# Altium footprint library PcbLib1.PcbLib: 8 footprints
Each footprint in its own frame and in the unit in brackets; x right, y up, seen from the top. Pads: shape width x height; smd on the part's side, far side on the other; paste and mask are expansions set on the pad; w line width, h text height; cw(c..) or ccw(c..) is an arc to the next point about the centre after c.
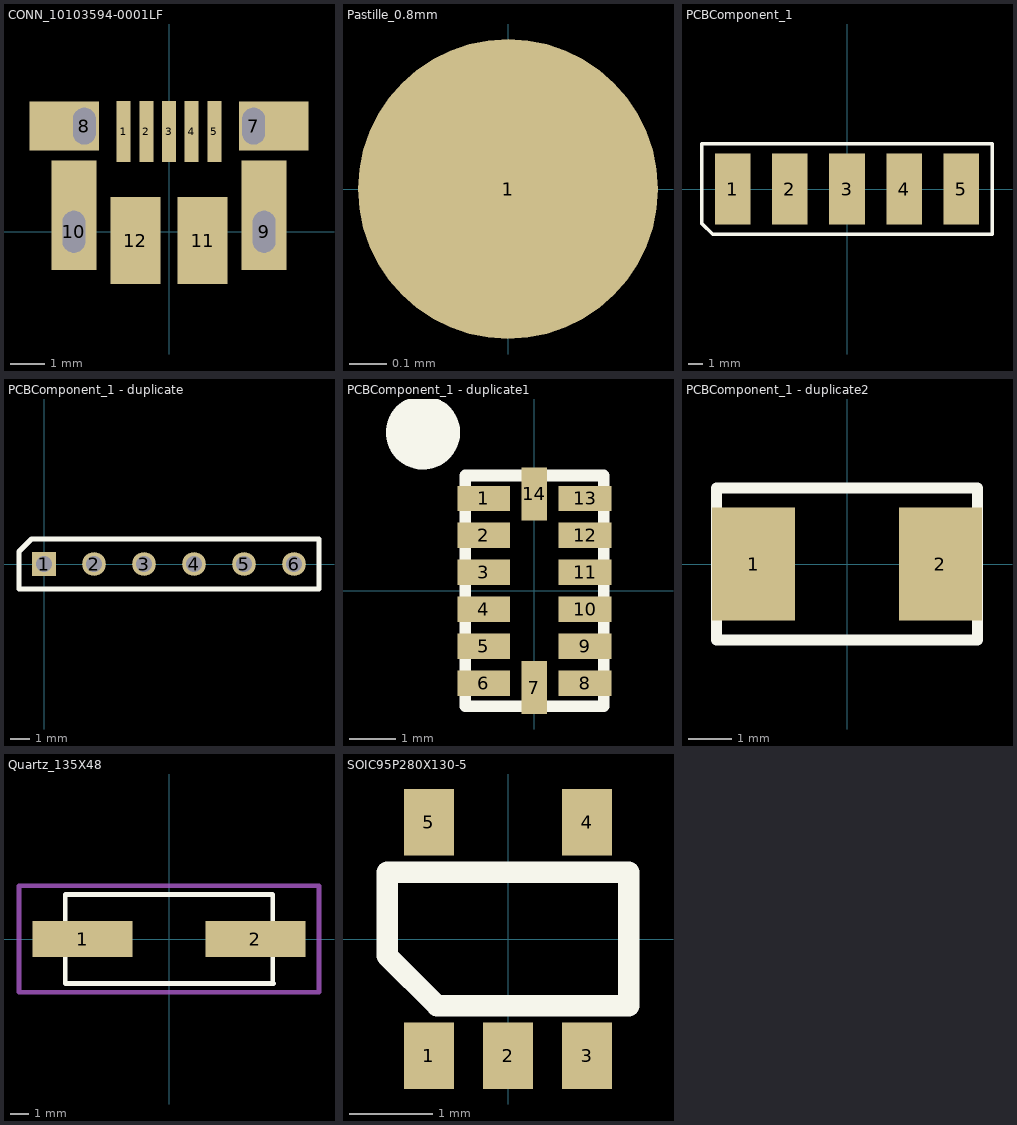
[diagram p0: the footprints below, top view; thin cyan lines are the x and y axes]

## CONN_10103594-0001LF [mm]
pads (11):
  rect 0.4x1.75 smd: 1(-1.3,2.875) 2(-0.65,2.875) 3(0,2.875) 4(0.65,2.875) 5(1.3,2.875)
  rect 2x1.4 hole 0.65 slot 1.05 at 90 deg copper offset 0.575,0: 7(2.425,3.03)
  rect 2x1.4 hole 0.65 slot 1.05 at 90 deg copper offset -0.575,0: 8(-2.425,3.03)
  rect 1.3x3.15 hole 0.65 slot 1.2 at 90 deg copper offset 0,0.475: 9(2.725,0) 10(-2.725,0)
  rect 1.425x2.5 smd: 11(0.962,-0.25) 12(-0.962,-0.25)
Mechanical 1:
  text ".Designator" at 0,0 h0.5

## Pastille_0.8mm [mm]
pads (1):
  round 0.8 smd: 1(0,0)
Mechanical 1:
  text ".Designator" at 0,0 h0.5

## PCBComponent_1 [mm]
pads (5):
  rect 2.5x5 smd: 1(-8,0) 2(-4,0) 3(0,0) 4(4,0) 5(8,0)
Top Overlay:
  lines w0.254: -10.16,-2.413 -10.16,3.175 10.16,3.175 10.16,-3.175 -9.398,-3.175 -10.16,-2.413
Mechanical 1:
  text ".Designator" at 0,0 h0.5

## PCBComponent_1 - duplicate [mm]
pads (6):
  rect 1.2x1.2 hole 0.8: 1(0,0)
  round 1.2 hole 0.8: 2(2.54,0) 3(5.08,0) 4(7.62,0) 5(10.16,0) 6(12.7,0)
Top Overlay:
  lines w0.254: -1.27,-1.27 -1.27,0.635 -0.635,1.27 13.97,1.27 13.97,-1.27 -1.27,-1.27
Mechanical 1:
  text ".Designator" at 0,0 h0.5

## PCBComponent_1 - duplicate1 [mm]
pads (14):
  rect 1.145x0.55 smd: 1(-1.098,2) 2(-1.098,1.2) 3(-1.098,0.4) 4(-1.098,-0.4) 5(-1.098,-1.2) 6(-1.098,-2) 8(1.098,-2) 9(1.098,-1.2) 10(1.098,-0.4) 11(1.098,0.4) 12(1.098,1.2) 13(1.098,2)
  rect 0.55x1.145 smd: 7(0,-2.097) 14(0,2.097)
Top Overlay:
  circle w0.8: c-2.413,3.429 r0.402
  lines w0.254: -1.5,-2.5 1.5,-2.5 1.5,2.5 -1.5,2.5 -1.5,-2.5
Mechanical 1:
  text ".Designator" at 0,0 h0.5
3D body: height 1, standoff 0, extent -1.524,-2.54 1.524,2.54

## PCBComponent_1 - duplicate2 [mm]
pads (2):
  rect 1.9x2.6 smd: 1(-2.15,0) 2(2.15,0)
Top Overlay:
  lines w0.254: -3,-1.75 3,-1.75 3,1.75 -3,1.75 -3,-1.75
Mechanical 1:
  text ".Designator" at 0,0 h0.5

## Quartz_135X48 [mm]
pads (2):
  rect 5.5x2 smd: 1(-4.75,0) 2(4.75,0)
Top Overlay:
  lines w0.254: 5.7,-2.45 5.7,2.45 -5.7,2.45 -5.7,-2.45 5.77,-2.45
Mechanical 1:
  lines w0.254: -8.255,-2.921 8.255,-2.921 8.255,2.921 -8.255,2.921 -8.255,-2.921
  text ".Designator" at 0,0 h0.5
3D body: height 3.92, standoff -0.08, extent -6.35,-2.4 6.15,2.4

## SOIC95P280X130-5 [mm]
pads (5):
  rect 0.6x0.8 smd: 1(-0.95,-1.4) 2(0,-1.4) 3(0.95,-1.4) 4(0.95,1.4) 5(-0.95,1.4)
Top Overlay:
  lines w0.254: -1.45,-0.201 -0.851,-0.8 1.45,-0.8 1.45,0.8 -1.45,0.8 -1.45,-0.201